# Altium integrated library MCU_ST_STM32F4.IntLib: 135 symbols (part 23 of 29)
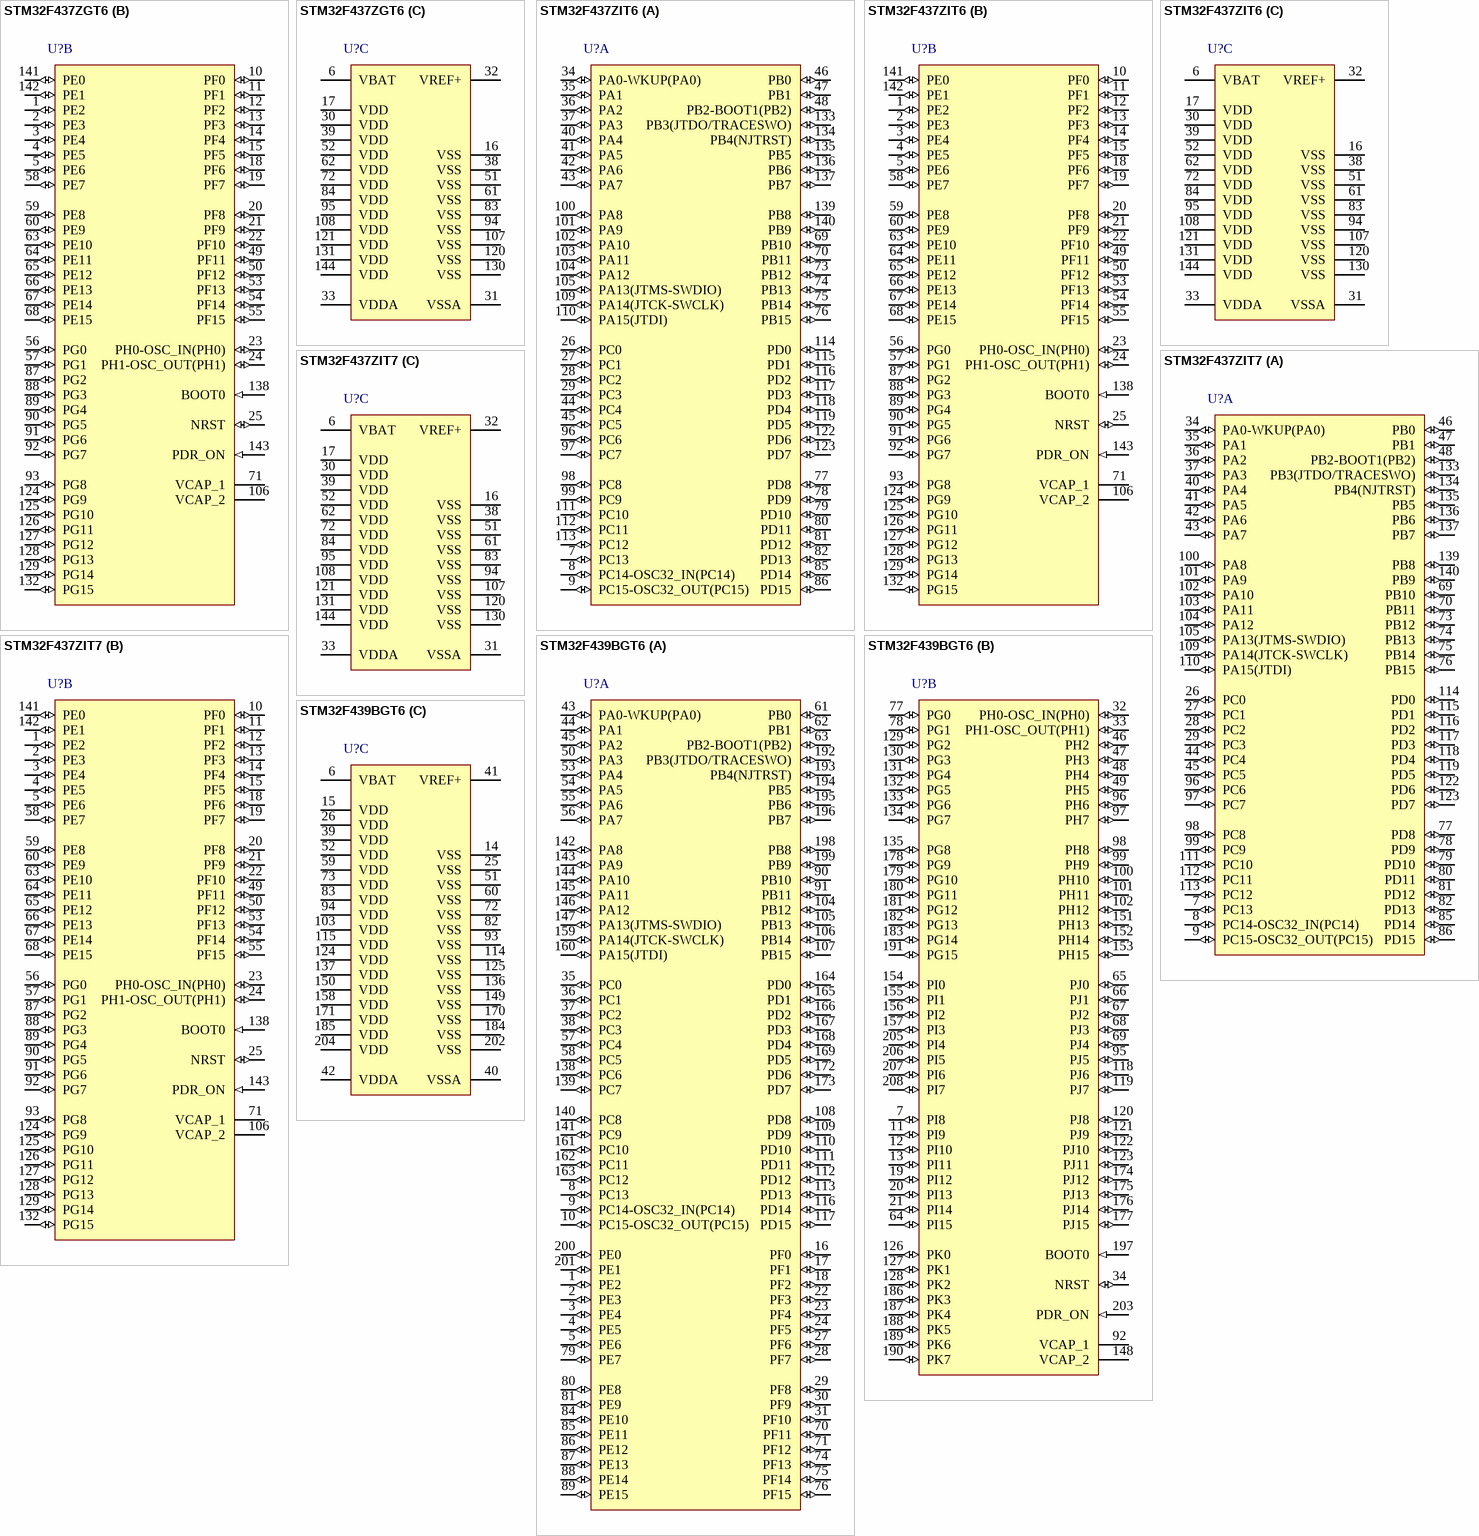
[diagram p61: symbols STM32F437ZGT6 to STM32F439BGT6]

## STM32F437ZGT6
designator U?
ARM Cortex-M4 32-bit MCU+FPU, 210 DMIPS, 1024 kB Flash, 256 kB Internal RAM, 114 I/Os, 144-pin LQFP, -40 to 85 degC, Tray; Manufacturer: STMicroelectronics; PartNumber: STM32F437ZGT6; D/A Converter: 2x12-bit; FLASH Size (Prog) (kB): 1024; I/Os (High Current): 114; Internal RAM Size (kB): 256; Operating Frequency(F) (Processor speed) (MHz): 168; Supply Voltage(Vcc) max (V): 3.6; Supply Voltage(Vcc) min (V): 1.8; DatasheetVersion: Rev. 1; PackageVersion: Rev. 4, 06/2013; PackageReference: LQFP144; PackageDescription: 144-Pin Low Profile Quad Flat Package, 20 x 20 mm Body, 0.5 mm Pitch; Supplier 1: Digi-Key; Supplier Part Number 1: STM32F437ZGT6-ND; Supplier 2: Newark; Supplier Part Number 2: 99W9936; Supplier 3: Newark; Supplier Part Number 3: 66W7320; Supplier 4: Mouser; Supplier Part Number 4: 511-STM32F437ZGT6; Core: ARM Cortex-M4; Packing: Tray; Mounting Technology: Surface Mount; ComponentLink1Description: Manufacturer URL; ComponentLink1URL: http://www.st.com/web/en/home.html; ComponentLink2Description: Datasheet; ComponentLink2URL: http://www.st.com/st-web-ui/static/active/en/resource/technical/document/datasheet/DM00077036.pdf; ComponentLink3Description: Package Specification; ComponentLink3URL: http://www.st.com/st-web-ui/static/active/en/resource/technical/document/datasheet/DM00037051.pdf
footprint STM-LQFP144_N (Thin QFP, 144-Leads, Body 20x20mm, Pitch 0.5mm, IPC Medium Density)
footprint STM-LQFP144_L (Thin QFP, 144-Leads, Body 20x20mm, Pitch 0.5mm, IPC High Density)
footprint STM-LQFP144_M (Thin QFP, 144-Leads, Body 20x20mm, Pitch 0.5mm, IPC Low Density)
footprint STM-LQFP144_V (Thin QFP, 144-Leads, Body 20x20mm, Pitch 0.5mm, ST Recommended)
part A pins: 7 PC13 (io) "PC13/EVENTOUT/RTC_OUT,RTC_TAMP1,RTC_TS", 8 PC14-OSC32_IN(PC14) (io) "PC14-OSC32_IN(PC14)/EVENTOUT/OSC32_IN", 9 PC15-OSC32_OUT(PC15) (io) "PC15-OSC32_OUT(PC15)/EVENTOUT/OSC32_OUT", 26 PC0 (io) "PC0/OTG_HS_ULPI_STP,EVENTOUT/ADC123_IN10", 27 PC1 (io) "PC1/ETH_MDC,EVENTOUT/ADC123_IN11", 28 PC2 (io) "PC2/SPI2_MISO,OTG_HS_ULPI_DIR,ETH_MII_TXD2,I2S2ext_SD,EVENTOUT/ADC123_IN12", 29 PC3 (io) "PC3/SPI2_MOSI/I2S2_SD,OTG_HS_ULPI_NXT,ETH_MII_TX_CLK,EVENTOUT/ADC123_IN13", 34 PA0-WKUP(PA0) (io) "PA0-WKUP(PA0)/USART2_CTS,UART4_TX,ETH_MII_CRS,TIM2_CH1_ETR,TIM5_CH1,TIM8_ETR,EVENTOUT/ADC123_IN0,WKUP", 35 PA1 (io) "PA1/USART2_RTS,UART4_RX,ETH_RMII_REF_CLK,ETH_MII_RX_CLK,TIM5_CH2,TIMM2_CH2,EVENTOUT/ADC123_IN1", 36 PA2 (io) "PA2/USART2_TX,TIM5_CH3,TIM9_CH1,TIM2_CH3,ETH_MDIO,EVENTOUT/ADC123_IN2", 37 PA3 (io) "PA3/USART2_RX,TIM5_CH4,TIM9_CH2,TIM2_CH4,OTG_HS_ULPI_D0,ETH_MII_COL,EVENTOUT/ADC123_IN3", 40 PA4 (io) "PA4/SPI1_NSS,SPI3_NSS,USART2_CK,DCMI_HSYNC,OTG_HS_SOF,I2S3_WS,EVENTOUT/ADC12_IN4,DAC1_OUT", 41 PA5 (io) "PA5/SPI1_SCK,OTG_HS_ULPI_CK,TIM2_CH1_ETR,TIM8_CH1N,EVENTOUT/ADC12_IN5,DAC2_OUT", 42 PA6 (io) "PA6/SPI1_MISO,TIM8_BKIN,TIM13_CH1,DCMI_PIXCLK,TIM3_CH1,TIM1_BKIN,EVENTOUT/ADC12_IN6", 43 PA7 (io) "PA7/SPI1_MOSI,TIM8_CH1N,TIM14_CH1,TIM3_CH2,ETH_MII_RX_DV,TIM1_CH1N,ETH_RMII_CRS_DV,EVENTOUT/ADC12_IN7", 44 PC4 (io) "PC4/ETH_RMII_RX_D0,ETH_MII_RX_D0,EVENTOUT/ADC12_IN14", 45 PC5 (io) "PC5/ETH_RMII_RX_D1,ETH_MII_RX_D1,EVENTOUT/ADC12_IN15", 46 PB0 (io) "PB0/TIM3_CH3,TIM8_CH2N,OTG_HS_ULPI_D1,ETH_MII_RXD2,TIM1_CH2N,EVENTOUT/ADC12_IN8", 47 PB1 (io) "PB1/TIM3_CH4,TIM8_CH3N,OTG_HS_ULPI_D2,ETH_MII_RXD3,TIM1_CH3N,EVENTOUT/ADC12_IN9", 48 PB2-BOOT1(PB2) (io) "PB2-BOOT1(PB2)/EVENTOUT", 69 PB10 (io) "PB10/SPI2_SCK/I2S2_CK,I2C2_SCL,USART3_TX,OTG_HS_ULPI_D3,ETH_MII_RX_ER,TIM2_CH3,EVENTOUT", 70 PB11 (io) "PB11/I2C2_SDA,USART3_RX,OTG_HS_ULPI_D4,ETH_RMII_TX_EN,ETH_MII_TX_EN,TIM2_CH4,EVENTOUT", 73 PB12 (io) "PB12/SPI2_NSS/I2S2_WS,I2C2_SMBA,USART3_CK,TIM1_BKIN,CAN2_RX,OTG_HS_ULPI_D5,ETH_RMII_TXD0,ETH_MII_TXD0,OTG_HS_ID,EVENTOUT", 74 PB13 (io) "PB13/SPI2_SCK/I2S2_CK,USART3_CTS,TIM1_CH1N,CAN2_TX,OTG_HS_ULPI_D6,ETH_RMII_TXD1,ETH_MII_TXD1,EVENTOUT/OTG_HS_VBUS", 75 PB14 (io) "PB14/SPI2_MISO,TIM1_CH2N,TIM12_CH1,OTG_HS_DM,USART3_RTS,TIM8_CH2N,I2S2ext_SD,EVENTOUT", 76 PB15 (io) "PB15/SPI2_MOSI/I2S2_SD,TIM1_CH3N,TIM8_CH3N,TIM12_CH2,OTG_HS_DP,EVENTOUT,RTC_REFIN", 77 PD8 (io) "PD8/FSMC_D13,USART3_TX,EVENTOUT", 78 PD9 (io) "PD9/FSMC_D14,USART3_RX,EVENTOUT", 79 PD10 (io) "PD10/FSMC_D15,USART3_CK,EVENTOUT", 80 PD11 (io) "PD11/FSMC_CLE,FSMC_A16,USART3_CTS,EVENTOUT", 81 PD12 (io) "PD12/FSMC_ALE,FSMC_A17,TIM4_CH1,USART3_RTS,EVENTOUT", 82 PD13 (io) "PD13/FSMC_A18,TIM4_CH2,EVENTOUT", 85 PD14 (io) "PD14/FSMC_D0,TIM4_CH3,EVENTOUT", 86 PD15 (io) "PD15/FSMC_D1,TIM4_CH4,EVENTOUT", 96 PC6 (io) "PC6/I2S2_MCK,TIM8_CH1,SDIO_D6,USART6_TX,DCMI_D0,TIM3_CH1,EVENTOUT", 97 PC7 (io) "PC7/I2S3_MCK,TIM8_CH2,SDIO_D7,USART6_RX,DCMI_D1,TIM3_CH2,EVENTOUT", 98 PC8 (io) "PC8/TIM8_CH3,SDIO_D0,TIM3_CH3,USART6_CK,DCMI_D2,EVENTOUT", 99 PC9 (io) "PC9/I2S_CKIN,MCO2,TIM8_CH4,SDIO_D1,I2C3_SDA,DCMI_D3,TIM3_CH4,EVENTOUT", 100 PA8 (io) "PA8/MCO1,USART1_CK,TIM1_CH1,I2C3_SCL,OTG_FS_SOF,EVENTOUT", 101 PA9 (io) "PA9/USART1_TX,TIM1_CH2,I2C3_SMBA,DCMI_D0,EVENTOUT/OTG_FS_VBUS", 102 PA10 (io) "PA10/USART1_RX,TIM1_CH3,OTG_FS_ID,DCMI_D1,EVENTOUT", 103 PA11 (io) "PA11/USART1_CTS,CAN1_RX,TIM1_CH4,OTG_FS_DM,EVENTOUT", 104 PA12 (io) "PA12/USART1_RTS,CAN1_TX,TIM1_ETR,OTG_FS_DP,EVENTOUT", 105 PA13(JTMS-SWDIO) (io) "PA13(JTMS-SWDIO)/JTMS-SWDIO,EVENTOUT", 109 PA14(JTCK-SWCLK) (io) "PA14(JTCK-SWCLK)/JTCK-SWCLK,EVENTOUT", 110 PA15(JTDI) (io) "PA15(JTDI)/JTDI,SPI3_NSS,I2S3_WS,TIM2_CH1_ETR,SPI1_NSS,EVENTOUT", 111 PC10 (io) "PC10/SPI3_SCK/I2S3_CK,UART4_TX,SDIO_D2,DCMI_D8,USART3_TX,EVENTOUT", 112 PC11 (io) "PC11/UART4_RX,SPI3_MISO,SDIO_D3,DCMI_D4,USART3_RX,I2S3ext_SD,EVENTOUT", 113 PC12 (io) "PC12/UART5_TX,SDIO_CK,DCMI_D9,SPI3_MOSI,I2S3_SD,USART3_CK,EVENTOUT", 114 PD0 (io) "PD0/FSMC_D2,CAN1_RX,EVENTOUT", 115 PD1 (io) "PD1/FSMC_D3,CAN1_TX,EVENTOUT", 116 PD2 (io) "PD2/TIM3_ETR,UART5_RX,SDIO_CMD,DCMI_D11,EVENTOUT", 117 PD3 (io) "PD3/FSMC_CLK,USART2_CTS,EVENTOUT,SPI2_SCK,I2S2_CK,DCMI_D5", 118 PD4 (io) "PD4/FSMC_NOE,USART2_RTS,EVENTOUT", 119 PD5 (io) "PD5/FSMC_NWE,USART2_TX,EVENTOUT", 122 PD6 (io) "PD6/FSMC_NWAIT,USART2_RX,EVENTOUT,SPI3_MOSI,I2S3_MOSI,DCMI_D10", 123 PD7 (io) "PD7/USART2_CK,FSMC_NE1,FSMC_NCE2,EVENTOUT", 133 PB3(JTDO/TRACESWO) (io) "PB3(JTDO/TRACESWO)/JTDO/TRACESWO,SPI3_SCK/I2S3_CK,TIM2_CH2,SPI1_SCK,EVENTOUT", 134 PB4(NJTRST) (io) "PB4(NJTRST)/NJTRST,SPI3_MISO,TIM3_CH1,SPI1_MISO,I2S3ext_SD,EVENTOUT", 135 PB5 (io) "PB5/I2C1_SMBA,CAN2_RX,OTG_HS_ULPI_D7,ETH_PPS_OUT,TIM3_CH2,SPI1_MOSI,SPI3_MOSI,DCMI_D10,I2S3_SD,EVENTOUT", 136 PB6 (io) "PB6/I2C1_SCL,TIM4_CH1,CAN2_TX,DCMI_D5,USART1_TX,EVENTOUT", 137 PB7 (io) "PB7/I2C1_SDA,FSMC_NL(NADV),DCMI_VSYNC,USART1_RX,TIM4_CH2,EVENTOUT", 139 PB8 (io) "PB8/TIM4_CH3,SDIO_D4,TIM10_CH1,DCMI_D6,ETH_MII_TXD3,I2C1_SCL,CAN1_RX,EVENTOUT", 140 PB9 (io) "PB9/SPI2_NSS/I2S2_WS,TIM4_CH4,TIM11_CH1,SDIO_D5,DCMI_D7,I2C1_SDA,CAN1_TX,EVENTOUT"
part B pins: 1 PE2 (io) "PE2/TRACECLK,FSMC_A23,ETH_MII_TXD3,EVENTOUT,SPI4_SCK", 2 PE3 (io) "PE3/TRACED0,FSMC_A19,EVENTOUT,SPI4_NSS", 3 PE4 (io) "PE4/TRACED1,FSMC_A20,DCMI_D4,EVENTOUT,SPI4_NSS", 4 PE5 (io) "PE5/TRACED2,FSMC_A21,TIM9_CH1,DCMI_D6,EVENTOUT,SPI4_MISO", 5 PE6 (io) "PE6/TRACED3,FSMC_A22,TIM9_CH2,DCMI_D7,EVENTOUT,SPI4_MOSI", 10 PF0 (io) "PF0/FSMC_A0,I2C2_SDA,EVENTOUT", 11 PF1 (io) "PF1/FSMC_A1,I2C2_SCL,EVENTOUT", 12 PF2 (io) "PF2/FSMC_A2,I2C2_SMBA,EVENTOUT", 13 PF3 (io) "PF3/FSMC_A3,EVENTOUT/ADC3_IN9", 14 PF4 (io) "PF4/FSMC_A4,EVENTOUT/ADC3_IN14", 15 PF5 (io) "PF5/FSMC_A5,EVENTOUT/ADC3_IN15", 18 PF6 (io) "PF6/TIM10_CH1,FSMC_NIORD,EVENTOUT,SPI5_NSS,UART7_RX/ADC3_IN4", 19 PF7 (io) "PF7/TIM11_CH1,FSMC_NREG,EVENTOUT,SPI5_SCK,UART7_TX/ADC3_IN5", 20 PF8 (io) "PF8/TIM13_CH1,FSMC_NIOWR,EVENTOUT,SPI5_MISO/ADC3_IN6", 21 PF9 (io) "PF9/TIM14_CH1,FSMC_CD,EVENTOUT,SPI5_MOSI/ADC3_IN7", 22 PF10 (io) "PF10/FSMC_INTR,EVENTOUT,DCMI_D11/ADC3_IN8", 23 PH0-OSC_IN(PH0) (io) "PH0-OSC_IN(PH0)/EVENTOUT/OSC_IN", 24 PH1-OSC_OUT(PH1) (io) "PH1-OSC_OUT(PH1)/EVENTOUT/OSC_OUT", 25 NRST (io), 49 PF11 (io) "PF11/DCMI_D12,EVENTOUT,SPI5_MOSI", 50 PF12 (io) "PF12/FSMC_A6,EVENTOUT", 53 PF13 (io) "PF13/FSMC_A7,EVENTOUT", 54 PF14 (io) "PF14/FSMC_A8,EVENTOUT", 55 PF15 (io) "PF15/FSMC_A9,EVENTOUT", 56 PG0 (io) "PG0/FSMC_A10,EVENTOUT", 57 PG1 (io) "PG1/FSMC_A11,EVENTOUT", 58 PE7 (io) "PE7/FSMC_D4,TIM1_ETR,EVENTOUT,UART7_RX", 59 PE8 (io) "PE8/FSMC_D5,TIM1_CH1N,EVENTOUT,UART7_TX", 60 PE9 (io) "PE9/FSMC_D6,TIM1_CH1,EVENTOUT", 63 PE10 (io) "PE10/FSMC_D7,TIM1_CH2N,EVENTOUT", 64 PE11 (io) "PE11/FSMC_D8,TIM1_CH2,EVENTOUT,SPI4_NSS", 65 PE12 (io) "PE12/FSMC_D9,TIM1_CH3N,EVENTOUT,SPI4_SCK", 66 PE13 (io) "PE13/FSMC_D10,TIM1_CH3,EVENTOUT,SPI4_MISO", 67 PE14 (io) "PE14/FSMC_D11,TIM1_CH4,EVENTOUT,SPI4_MOSI", 68 PE15 (io) "PE15/FSMC_D12,TIM1_BKIN,EVENTOUT", 71 VCAP_1 (power), 87 PG2 (io) "PG2/FSMC_A12,EVENTOUT", 88 PG3 (io) "PG3/FSMC_A13,EVENTOUT", 89 PG4 (io) "PG4/FSMC_A14,EVENTOUT", 90 PG5 (io) "PG5/FSMC_A15,EVENTOUT", 91 PG6 (io) "PG6/FSMC_INT2,EVENTOUT,DCMI_D12", 92 PG7 (io) "PG7/FSMC_INT3,USART6_CK,EVENTOUT,DCMI_D13", 93 PG8 (io) "PG8/USART6_RTS,ETH_PPS_OUT,EVENTOUT,SPI6_NSS", 106 VCAP_2 (power), 124 PG9 (io) "PG9/USART6_RX,FSMC_NE2,FSMC_NCE3,EVENTOUT", 125 PG10 (io) "PG10/FSMC_NCE4_1,FSMC_NE3,EVENTOUT,DCMI_D2", 126 PG11 (io) "PG11/FSMC_NCE4_2,ETH_MII_TX_EN,ETH_RMII_TX_EN,EVENTOUT,DCMI_D3", 127 PG12 (io) "PG12/FSMC_NE4,USART6_RTS,EVENTOUT,SPI6_MISO", 128 PG13 (io) "PG13/FSMC_A24,USART6_CTS,ETH_MII_TXD0,ETH_RMII_TXD0,EVENTOUT,SPI6_SCK", 129 PG14 (io) "PG14/FSMC_A25,USART6_TX,ETH_MII_TXD1,ETH_RMII_TXD1,EVENTOUT,SPI6_MOSI", 132 PG15 (io) "PG15/USART6_CTS,DCMI_D13,EVENTOUT", 138 BOOT0 (in) "BOOT0/VPP", 141 PE0 (io) "PE0/TIM4_ETR,FSMC_NBL0,DCMI_D2,EVENTOUT,UART8_RX", 142 PE1 (io) "PE1/FSMC_NBL1,DCMI_D3,EVENTOUT,UART8_TX", 143 PDR_ON (in)
part C pins: 6 VBAT (power), 16 VSS (power), 17 VDD (power), 30 VDD (power), 31 VSSA (power), 32 VREF+ (power), 33 VDDA (power), 38 VSS (power), 39 VDD (power), 51 VSS (power), 52 VDD (power), 61 VSS (power), 62 VDD (power), 72 VDD (power), 83 VSS (power), 84 VDD (power), 94 VSS (power), 95 VDD (power), 107 VSS (power), 108 VDD (power), 120 VSS (power), 121 VDD (power), 130 VSS (power), 131 VDD (power), 144 VDD (power)

## STM32F437ZIT6
designator U?
ARM Cortex-M4 32-bit MCU+FPU, 210 DMIPS, 2048 kB Flash, 256 kB Internal RAM, 114 I/Os, 144-pin LQFP, -40 to 85 degC, Tray; Manufacturer: STMicroelectronics; PartNumber: STM32F437ZIT6; D/A Converter: 2x12-bit; FLASH Size (Prog) (kB): 2048; I/Os (High Current): 114; Internal RAM Size (kB): 256; Operating Frequency(F) (Processor speed) (MHz): 168; Supply Voltage(Vcc) max (V): 3.6; Supply Voltage(Vcc) min (V): 1.8; DatasheetVersion: Rev. 1; PackageVersion: Rev. 4, 06/2013; PackageReference: LQFP144; PackageDescription: 144-Pin Low Profile Quad Flat Package, 20 x 20 mm Body, 0.5 mm Pitch; Supplier 1: Digi-Key; Supplier Part Number 1: STM32F437ZIT6-ND; Supplier 2: Farnell; Supplier Part Number 2: 2333380; Supplier 3: Newark; Supplier Part Number 3: 99W9937; Supplier 4: Newark; Supplier Part Number 4: 66W7321; Supplier 5: Mouser; Supplier Part Number 5: 511-STM32F437ZIT6; Core: ARM Cortex-M4; Packing: Tray; Mounting Technology: Surface Mount; ComponentLink1Description: Manufacturer URL; ComponentLink1URL: http://www.st.com/web/en/home.html; ComponentLink2Description: Datasheet; ComponentLink2URL: http://www.st.com/st-web-ui/static/active/en/resource/technical/document/datasheet/DM00077036.pdf; ComponentLink3Description: Package Specification; ComponentLink3URL: http://www.st.com/st-web-ui/static/active/en/resource/technical/document/datasheet/DM00037051.pdf
footprint STM-LQFP144_N (Thin QFP, 144-Leads, Body 20x20mm, Pitch 0.5mm, IPC Medium Density)
footprint STM-LQFP144_L (Thin QFP, 144-Leads, Body 20x20mm, Pitch 0.5mm, IPC High Density)
footprint STM-LQFP144_M (Thin QFP, 144-Leads, Body 20x20mm, Pitch 0.5mm, IPC Low Density)
footprint STM-LQFP144_V (Thin QFP, 144-Leads, Body 20x20mm, Pitch 0.5mm, ST Recommended)
part A pins: 7 PC13 (io) "PC13/EVENTOUT/RTC_OUT,RTC_TAMP1,RTC_TS", 8 PC14-OSC32_IN(PC14) (io) "PC14-OSC32_IN(PC14)/EVENTOUT/OSC32_IN", 9 PC15-OSC32_OUT(PC15) (io) "PC15-OSC32_OUT(PC15)/EVENTOUT/OSC32_OUT", 26 PC0 (io) "PC0/OTG_HS_ULPI_STP,EVENTOUT/ADC123_IN10", 27 PC1 (io) "PC1/ETH_MDC,EVENTOUT/ADC123_IN11", 28 PC2 (io) "PC2/SPI2_MISO,OTG_HS_ULPI_DIR,ETH_MII_TXD2,I2S2ext_SD,EVENTOUT/ADC123_IN12", 29 PC3 (io) "PC3/SPI2_MOSI/I2S2_SD,OTG_HS_ULPI_NXT,ETH_MII_TX_CLK,EVENTOUT/ADC123_IN13", 34 PA0-WKUP(PA0) (io) "PA0-WKUP(PA0)/USART2_CTS,UART4_TX,ETH_MII_CRS,TIM2_CH1_ETR,TIM5_CH1,TIM8_ETR,EVENTOUT/ADC123_IN0,WKUP", 35 PA1 (io) "PA1/USART2_RTS,UART4_RX,ETH_RMII_REF_CLK,ETH_MII_RX_CLK,TIM5_CH2,TIMM2_CH2,EVENTOUT/ADC123_IN1", 36 PA2 (io) "PA2/USART2_TX,TIM5_CH3,TIM9_CH1,TIM2_CH3,ETH_MDIO,EVENTOUT/ADC123_IN2", 37 PA3 (io) "PA3/USART2_RX,TIM5_CH4,TIM9_CH2,TIM2_CH4,OTG_HS_ULPI_D0,ETH_MII_COL,EVENTOUT/ADC123_IN3", 40 PA4 (io) "PA4/SPI1_NSS,SPI3_NSS,USART2_CK,DCMI_HSYNC,OTG_HS_SOF,I2S3_WS,EVENTOUT/ADC12_IN4,DAC1_OUT", 41 PA5 (io) "PA5/SPI1_SCK,OTG_HS_ULPI_CK,TIM2_CH1_ETR,TIM8_CH1N,EVENTOUT/ADC12_IN5,DAC2_OUT", 42 PA6 (io) "PA6/SPI1_MISO,TIM8_BKIN,TIM13_CH1,DCMI_PIXCLK,TIM3_CH1,TIM1_BKIN,EVENTOUT/ADC12_IN6", 43 PA7 (io) "PA7/SPI1_MOSI,TIM8_CH1N,TIM14_CH1,TIM3_CH2,ETH_MII_RX_DV,TIM1_CH1N,ETH_RMII_CRS_DV,EVENTOUT/ADC12_IN7", 44 PC4 (io) "PC4/ETH_RMII_RX_D0,ETH_MII_RX_D0,EVENTOUT/ADC12_IN14", 45 PC5 (io) "PC5/ETH_RMII_RX_D1,ETH_MII_RX_D1,EVENTOUT/ADC12_IN15", 46 PB0 (io) "PB0/TIM3_CH3,TIM8_CH2N,OTG_HS_ULPI_D1,ETH_MII_RXD2,TIM1_CH2N,EVENTOUT/ADC12_IN8", 47 PB1 (io) "PB1/TIM3_CH4,TIM8_CH3N,OTG_HS_ULPI_D2,ETH_MII_RXD3,TIM1_CH3N,EVENTOUT/ADC12_IN9", 48 PB2-BOOT1(PB2) (io) "PB2-BOOT1(PB2)/EVENTOUT", 69 PB10 (io) "PB10/SPI2_SCK/I2S2_CK,I2C2_SCL,USART3_TX,OTG_HS_ULPI_D3,ETH_MII_RX_ER,TIM2_CH3,EVENTOUT", 70 PB11 (io) "PB11/I2C2_SDA,USART3_RX,OTG_HS_ULPI_D4,ETH_RMII_TX_EN,ETH_MII_TX_EN,TIM2_CH4,EVENTOUT", 73 PB12 (io) "PB12/SPI2_NSS/I2S2_WS,I2C2_SMBA,USART3_CK,TIM1_BKIN,CAN2_RX,OTG_HS_ULPI_D5,ETH_RMII_TXD0,ETH_MII_TXD0,OTG_HS_ID,EVENTOUT", 74 PB13 (io) "PB13/SPI2_SCK/I2S2_CK,USART3_CTS,TIM1_CH1N,CAN2_TX,OTG_HS_ULPI_D6,ETH_RMII_TXD1,ETH_MII_TXD1,EVENTOUT/OTG_HS_VBUS", 75 PB14 (io) "PB14/SPI2_MISO,TIM1_CH2N,TIM12_CH1,OTG_HS_DM,USART3_RTS,TIM8_CH2N,I2S2ext_SD,EVENTOUT", 76 PB15 (io) "PB15/SPI2_MOSI/I2S2_SD,TIM1_CH3N,TIM8_CH3N,TIM12_CH2,OTG_HS_DP,EVENTOUT,RTC_REFIN", 77 PD8 (io) "PD8/FSMC_D13,USART3_TX,EVENTOUT", 78 PD9 (io) "PD9/FSMC_D14,USART3_RX,EVENTOUT", 79 PD10 (io) "PD10/FSMC_D15,USART3_CK,EVENTOUT", 80 PD11 (io) "PD11/FSMC_CLE,FSMC_A16,USART3_CTS,EVENTOUT", 81 PD12 (io) "PD12/FSMC_ALE,FSMC_A17,TIM4_CH1,USART3_RTS,EVENTOUT", 82 PD13 (io) "PD13/FSMC_A18,TIM4_CH2,EVENTOUT", 85 PD14 (io) "PD14/FSMC_D0,TIM4_CH3,EVENTOUT", 86 PD15 (io) "PD15/FSMC_D1,TIM4_CH4,EVENTOUT", 96 PC6 (io) "PC6/I2S2_MCK,TIM8_CH1,SDIO_D6,USART6_TX,DCMI_D0,TIM3_CH1,EVENTOUT", 97 PC7 (io) "PC7/I2S3_MCK,TIM8_CH2,SDIO_D7,USART6_RX,DCMI_D1,TIM3_CH2,EVENTOUT", 98 PC8 (io) "PC8/TIM8_CH3,SDIO_D0,TIM3_CH3,USART6_CK,DCMI_D2,EVENTOUT", 99 PC9 (io) "PC9/I2S_CKIN,MCO2,TIM8_CH4,SDIO_D1,I2C3_SDA,DCMI_D3,TIM3_CH4,EVENTOUT", 100 PA8 (io) "PA8/MCO1,USART1_CK,TIM1_CH1,I2C3_SCL,OTG_FS_SOF,EVENTOUT", 101 PA9 (io) "PA9/USART1_TX,TIM1_CH2,I2C3_SMBA,DCMI_D0,EVENTOUT/OTG_FS_VBUS", 102 PA10 (io) "PA10/USART1_RX,TIM1_CH3,OTG_FS_ID,DCMI_D1,EVENTOUT", 103 PA11 (io) "PA11/USART1_CTS,CAN1_RX,TIM1_CH4,OTG_FS_DM,EVENTOUT", 104 PA12 (io) "PA12/USART1_RTS,CAN1_TX,TIM1_ETR,OTG_FS_DP,EVENTOUT", 105 PA13(JTMS-SWDIO) (io) "PA13(JTMS-SWDIO)/JTMS-SWDIO,EVENTOUT", 109 PA14(JTCK-SWCLK) (io) "PA14(JTCK-SWCLK)/JTCK-SWCLK,EVENTOUT", 110 PA15(JTDI) (io) "PA15(JTDI)/JTDI,SPI3_NSS,I2S3_WS,TIM2_CH1_ETR,SPI1_NSS,EVENTOUT", 111 PC10 (io) "PC10/SPI3_SCK/I2S3_CK,UART4_TX,SDIO_D2,DCMI_D8,USART3_TX,EVENTOUT", 112 PC11 (io) "PC11/UART4_RX,SPI3_MISO,SDIO_D3,DCMI_D4,USART3_RX,I2S3ext_SD,EVENTOUT", 113 PC12 (io) "PC12/UART5_TX,SDIO_CK,DCMI_D9,SPI3_MOSI,I2S3_SD,USART3_CK,EVENTOUT", 114 PD0 (io) "PD0/FSMC_D2,CAN1_RX,EVENTOUT", 115 PD1 (io) "PD1/FSMC_D3,CAN1_TX,EVENTOUT", 116 PD2 (io) "PD2/TIM3_ETR,UART5_RX,SDIO_CMD,DCMI_D11,EVENTOUT", 117 PD3 (io) "PD3/FSMC_CLK,USART2_CTS,EVENTOUT,SPI2_SCK,I2S2_CK,DCMI_D5", 118 PD4 (io) "PD4/FSMC_NOE,USART2_RTS,EVENTOUT", 119 PD5 (io) "PD5/FSMC_NWE,USART2_TX,EVENTOUT", 122 PD6 (io) "PD6/FSMC_NWAIT,USART2_RX,EVENTOUT,SPI3_MOSI,I2S3_MOSI,DCMI_D10", 123 PD7 (io) "PD7/USART2_CK,FSMC_NE1,FSMC_NCE2,EVENTOUT", 133 PB3(JTDO/TRACESWO) (io) "PB3(JTDO/TRACESWO)/JTDO/TRACESWO,SPI3_SCK/I2S3_CK,TIM2_CH2,SPI1_SCK,EVENTOUT", 134 PB4(NJTRST) (io) "PB4(NJTRST)/NJTRST,SPI3_MISO,TIM3_CH1,SPI1_MISO,I2S3ext_SD,EVENTOUT", 135 PB5 (io) "PB5/I2C1_SMBA,CAN2_RX,OTG_HS_ULPI_D7,ETH_PPS_OUT,TIM3_CH2,SPI1_MOSI,SPI3_MOSI,DCMI_D10,I2S3_SD,EVENTOUT", 136 PB6 (io) "PB6/I2C1_SCL,TIM4_CH1,CAN2_TX,DCMI_D5,USART1_TX,EVENTOUT", 137 PB7 (io) "PB7/I2C1_SDA,FSMC_NL(NADV),DCMI_VSYNC,USART1_RX,TIM4_CH2,EVENTOUT", 139 PB8 (io) "PB8/TIM4_CH3,SDIO_D4,TIM10_CH1,DCMI_D6,ETH_MII_TXD3,I2C1_SCL,CAN1_RX,EVENTOUT", 140 PB9 (io) "PB9/SPI2_NSS/I2S2_WS,TIM4_CH4,TIM11_CH1,SDIO_D5,DCMI_D7,I2C1_SDA,CAN1_TX,EVENTOUT"
part B pins: 1 PE2 (io) "PE2/TRACECLK,FSMC_A23,ETH_MII_TXD3,EVENTOUT,SPI4_SCK", 2 PE3 (io) "PE3/TRACED0,FSMC_A19,EVENTOUT,SPI4_NSS", 3 PE4 (io) "PE4/TRACED1,FSMC_A20,DCMI_D4,EVENTOUT,SPI4_NSS", 4 PE5 (io) "PE5/TRACED2,FSMC_A21,TIM9_CH1,DCMI_D6,EVENTOUT,SPI4_MISO", 5 PE6 (io) "PE6/TRACED3,FSMC_A22,TIM9_CH2,DCMI_D7,EVENTOUT,SPI4_MOSI", 10 PF0 (io) "PF0/FSMC_A0,I2C2_SDA,EVENTOUT", 11 PF1 (io) "PF1/FSMC_A1,I2C2_SCL,EVENTOUT", 12 PF2 (io) "PF2/FSMC_A2,I2C2_SMBA,EVENTOUT", 13 PF3 (io) "PF3/FSMC_A3,EVENTOUT/ADC3_IN9", 14 PF4 (io) "PF4/FSMC_A4,EVENTOUT/ADC3_IN14", 15 PF5 (io) "PF5/FSMC_A5,EVENTOUT/ADC3_IN15", 18 PF6 (io) "PF6/TIM10_CH1,FSMC_NIORD,EVENTOUT,SPI5_NSS,UART7_RX/ADC3_IN4", 19 PF7 (io) "PF7/TIM11_CH1,FSMC_NREG,EVENTOUT,SPI5_SCK,UART7_TX/ADC3_IN5", 20 PF8 (io) "PF8/TIM13_CH1,FSMC_NIOWR,EVENTOUT,SPI5_MISO/ADC3_IN6", 21 PF9 (io) "PF9/TIM14_CH1,FSMC_CD,EVENTOUT,SPI5_MOSI/ADC3_IN7", 22 PF10 (io) "PF10/FSMC_INTR,EVENTOUT,DCMI_D11/ADC3_IN8", 23 PH0-OSC_IN(PH0) (io) "PH0-OSC_IN(PH0)/EVENTOUT/OSC_IN", 24 PH1-OSC_OUT(PH1) (io) "PH1-OSC_OUT(PH1)/EVENTOUT/OSC_OUT", 25 NRST (io), 49 PF11 (io) "PF11/DCMI_D12,EVENTOUT,SPI5_MOSI", 50 PF12 (io) "PF12/FSMC_A6,EVENTOUT", 53 PF13 (io) "PF13/FSMC_A7,EVENTOUT", 54 PF14 (io) "PF14/FSMC_A8,EVENTOUT", 55 PF15 (io) "PF15/FSMC_A9,EVENTOUT", 56 PG0 (io) "PG0/FSMC_A10,EVENTOUT", 57 PG1 (io) "PG1/FSMC_A11,EVENTOUT", 58 PE7 (io) "PE7/FSMC_D4,TIM1_ETR,EVENTOUT,UART7_RX", 59 PE8 (io) "PE8/FSMC_D5,TIM1_CH1N,EVENTOUT,UART7_TX", 60 PE9 (io) "PE9/FSMC_D6,TIM1_CH1,EVENTOUT", 63 PE10 (io) "PE10/FSMC_D7,TIM1_CH2N,EVENTOUT", 64 PE11 (io) "PE11/FSMC_D8,TIM1_CH2,EVENTOUT,SPI4_NSS", 65 PE12 (io) "PE12/FSMC_D9,TIM1_CH3N,EVENTOUT,SPI4_SCK", 66 PE13 (io) "PE13/FSMC_D10,TIM1_CH3,EVENTOUT,SPI4_MISO", 67 PE14 (io) "PE14/FSMC_D11,TIM1_CH4,EVENTOUT,SPI4_MOSI", 68 PE15 (io) "PE15/FSMC_D12,TIM1_BKIN,EVENTOUT", 71 VCAP_1 (power), 87 PG2 (io) "PG2/FSMC_A12,EVENTOUT", 88 PG3 (io) "PG3/FSMC_A13,EVENTOUT", 89 PG4 (io) "PG4/FSMC_A14,EVENTOUT", 90 PG5 (io) "PG5/FSMC_A15,EVENTOUT", 91 PG6 (io) "PG6/FSMC_INT2,EVENTOUT,DCMI_D12", 92 PG7 (io) "PG7/FSMC_INT3,USART6_CK,EVENTOUT,DCMI_D13", 93 PG8 (io) "PG8/USART6_RTS,ETH_PPS_OUT,EVENTOUT,SPI6_NSS", 106 VCAP_2 (power), 124 PG9 (io) "PG9/USART6_RX,FSMC_NE2,FSMC_NCE3,EVENTOUT", 125 PG10 (io) "PG10/FSMC_NCE4_1,FSMC_NE3,EVENTOUT,DCMI_D2", 126 PG11 (io) "PG11/FSMC_NCE4_2,ETH_MII_TX_EN,ETH_RMII_TX_EN,EVENTOUT,DCMI_D3", 127 PG12 (io) "PG12/FSMC_NE4,USART6_RTS,EVENTOUT,SPI6_MISO", 128 PG13 (io) "PG13/FSMC_A24,USART6_CTS,ETH_MII_TXD0,ETH_RMII_TXD0,EVENTOUT,SPI6_SCK", 129 PG14 (io) "PG14/FSMC_A25,USART6_TX,ETH_MII_TXD1,ETH_RMII_TXD1,EVENTOUT,SPI6_MOSI", 132 PG15 (io) "PG15/USART6_CTS,DCMI_D13,EVENTOUT", 138 BOOT0 (in) "BOOT0/VPP", 141 PE0 (io) "PE0/TIM4_ETR,FSMC_NBL0,DCMI_D2,EVENTOUT,UART8_RX", 142 PE1 (io) "PE1/FSMC_NBL1,DCMI_D3,EVENTOUT,UART8_TX", 143 PDR_ON (in)
part C pins: 6 VBAT (power), 16 VSS (power), 17 VDD (power), 30 VDD (power), 31 VSSA (power), 32 VREF+ (power), 33 VDDA (power), 38 VSS (power), 39 VDD (power), 51 VSS (power), 52 VDD (power), 61 VSS (power), 62 VDD (power), 72 VDD (power), 83 VSS (power), 84 VDD (power), 94 VSS (power), 95 VDD (power), 107 VSS (power), 108 VDD (power), 120 VSS (power), 121 VDD (power), 130 VSS (power), 131 VDD (power), 144 VDD (power)

## STM32F437ZIT7
designator U?
ARM Cortex-M4 32-bit MCU+FPU, 210 DMIPS, 2048 kB Flash, 256 kB Internal RAM, 114 I/Os, 144-pin LQFP, -40 to 105 degC, Tray; Manufacturer: STMicroelectronics; PartNumber: STM32F437ZIT7; D/A Converter: 2x12-bit; FLASH Size (Prog) (kB): 2048; I/Os (High Current): 114; Internal RAM Size (kB): 256; Operating Frequency(F) (Processor speed) (MHz): 168; Supply Voltage(Vcc) max (V): 3.6; Supply Voltage(Vcc) min (V): 1.8; DatasheetVersion: Rev. 1; PackageVersion: Rev. 4, 06/2013; PackageReference: LQFP144; PackageDescription: 144-Pin Low Profile Quad Flat Package, 20 x 20 mm Body, 0.5 mm Pitch; Supplier 1: Newark; Supplier Part Number 1: 19X6233; Supplier 2: Mouser; Supplier Part Number 2: 511-STM32F437ZIT7; Core: ARM Cortex-M4; Packing: Tray; Mounting Technology: Surface Mount; ComponentLink1Description: Manufacturer URL; ComponentLink1URL: http://www.st.com/web/en/home.html; ComponentLink2Description: Datasheet; ComponentLink2URL: http://www.st.com/st-web-ui/static/active/en/resource/technical/document/datasheet/DM00077036.pdf; ComponentLink3Description: Package Specification; ComponentLink3URL: http://www.st.com/st-web-ui/static/active/en/resource/technical/document/datasheet/DM00037051.pdf
footprint STM-LQFP144_N (Thin QFP, 144-Leads, Body 20x20mm, Pitch 0.5mm, IPC Medium Density)
footprint STM-LQFP144_L (Thin QFP, 144-Leads, Body 20x20mm, Pitch 0.5mm, IPC High Density)
footprint STM-LQFP144_M (Thin QFP, 144-Leads, Body 20x20mm, Pitch 0.5mm, IPC Low Density)
footprint STM-LQFP144_V (Thin QFP, 144-Leads, Body 20x20mm, Pitch 0.5mm, ST Recommended)
part A pins: 7 PC13 (io) "PC13/EVENTOUT/RTC_OUT,RTC_TAMP1,RTC_TS", 8 PC14-OSC32_IN(PC14) (io) "PC14-OSC32_IN(PC14)/EVENTOUT/OSC32_IN", 9 PC15-OSC32_OUT(PC15) (io) "PC15-OSC32_OUT(PC15)/EVENTOUT/OSC32_OUT", 26 PC0 (io) "PC0/OTG_HS_ULPI_STP,EVENTOUT/ADC123_IN10", 27 PC1 (io) "PC1/ETH_MDC,EVENTOUT/ADC123_IN11", 28 PC2 (io) "PC2/SPI2_MISO,OTG_HS_ULPI_DIR,ETH_MII_TXD2,I2S2ext_SD,EVENTOUT/ADC123_IN12", 29 PC3 (io) "PC3/SPI2_MOSI/I2S2_SD,OTG_HS_ULPI_NXT,ETH_MII_TX_CLK,EVENTOUT/ADC123_IN13", 34 PA0-WKUP(PA0) (io) "PA0-WKUP(PA0)/USART2_CTS,UART4_TX,ETH_MII_CRS,TIM2_CH1_ETR,TIM5_CH1,TIM8_ETR,EVENTOUT/ADC123_IN0,WKUP", 35 PA1 (io) "PA1/USART2_RTS,UART4_RX,ETH_RMII_REF_CLK,ETH_MII_RX_CLK,TIM5_CH2,TIMM2_CH2,EVENTOUT/ADC123_IN1", 36 PA2 (io) "PA2/USART2_TX,TIM5_CH3,TIM9_CH1,TIM2_CH3,ETH_MDIO,EVENTOUT/ADC123_IN2", 37 PA3 (io) "PA3/USART2_RX,TIM5_CH4,TIM9_CH2,TIM2_CH4,OTG_HS_ULPI_D0,ETH_MII_COL,EVENTOUT/ADC123_IN3", 40 PA4 (io) "PA4/SPI1_NSS,SPI3_NSS,USART2_CK,DCMI_HSYNC,OTG_HS_SOF,I2S3_WS,EVENTOUT/ADC12_IN4,DAC1_OUT", 41 PA5 (io) "PA5/SPI1_SCK,OTG_HS_ULPI_CK,TIM2_CH1_ETR,TIM8_CH1N,EVENTOUT/ADC12_IN5,DAC2_OUT", 42 PA6 (io) "PA6/SPI1_MISO,TIM8_BKIN,TIM13_CH1,DCMI_PIXCLK,TIM3_CH1,TIM1_BKIN,EVENTOUT/ADC12_IN6", 43 PA7 (io) "PA7/SPI1_MOSI,TIM8_CH1N,TIM14_CH1,TIM3_CH2,ETH_MII_RX_DV,TIM1_CH1N,ETH_RMII_CRS_DV,EVENTOUT/ADC12_IN7", 44 PC4 (io) "PC4/ETH_RMII_RX_D0,ETH_MII_RX_D0,EVENTOUT/ADC12_IN14", 45 PC5 (io) "PC5/ETH_RMII_RX_D1,ETH_MII_RX_D1,EVENTOUT/ADC12_IN15", 46 PB0 (io) "PB0/TIM3_CH3,TIM8_CH2N,OTG_HS_ULPI_D1,ETH_MII_RXD2,TIM1_CH2N,EVENTOUT/ADC12_IN8", 47 PB1 (io) "PB1/TIM3_CH4,TIM8_CH3N,OTG_HS_ULPI_D2,ETH_MII_RXD3,TIM1_CH3N,EVENTOUT/ADC12_IN9", 48 PB2-BOOT1(PB2) (io) "PB2-BOOT1(PB2)/EVENTOUT", 69 PB10 (io) "PB10/SPI2_SCK/I2S2_CK,I2C2_SCL,USART3_TX,OTG_HS_ULPI_D3,ETH_MII_RX_ER,TIM2_CH3,EVENTOUT", 70 PB11 (io) "PB11/I2C2_SDA,USART3_RX,OTG_HS_ULPI_D4,ETH_RMII_TX_EN,ETH_MII_TX_EN,TIM2_CH4,EVENTOUT", 73 PB12 (io) "PB12/SPI2_NSS/I2S2_WS,I2C2_SMBA,USART3_CK,TIM1_BKIN,CAN2_RX,OTG_HS_ULPI_D5,ETH_RMII_TXD0,ETH_MII_TXD0,OTG_HS_ID,EVENTOUT", 74 PB13 (io) "PB13/SPI2_SCK/I2S2_CK,USART3_CTS,TIM1_CH1N,CAN2_TX,OTG_HS_ULPI_D6,ETH_RMII_TXD1,ETH_MII_TXD1,EVENTOUT/OTG_HS_VBUS", 75 PB14 (io) "PB14/SPI2_MISO,TIM1_CH2N,TIM12_CH1,OTG_HS_DM,USART3_RTS,TIM8_CH2N,I2S2ext_SD,EVENTOUT", 76 PB15 (io) "PB15/SPI2_MOSI/I2S2_SD,TIM1_CH3N,TIM8_CH3N,TIM12_CH2,OTG_HS_DP,EVENTOUT,RTC_REFIN", 77 PD8 (io) "PD8/FSMC_D13,USART3_TX,EVENTOUT", 78 PD9 (io) "PD9/FSMC_D14,USART3_RX,EVENTOUT", 79 PD10 (io) "PD10/FSMC_D15,USART3_CK,EVENTOUT", 80 PD11 (io) "PD11/FSMC_CLE,FSMC_A16,USART3_CTS,EVENTOUT", 81 PD12 (io) "PD12/FSMC_ALE,FSMC_A17,TIM4_CH1,USART3_RTS,EVENTOUT", 82 PD13 (io) "PD13/FSMC_A18,TIM4_CH2,EVENTOUT", 85 PD14 (io) "PD14/FSMC_D0,TIM4_CH3,EVENTOUT", 86 PD15 (io) "PD15/FSMC_D1,TIM4_CH4,EVENTOUT", 96 PC6 (io) "PC6/I2S2_MCK,TIM8_CH1,SDIO_D6,USART6_TX,DCMI_D0,TIM3_CH1,EVENTOUT", 97 PC7 (io) "PC7/I2S3_MCK,TIM8_CH2,SDIO_D7,USART6_RX,DCMI_D1,TIM3_CH2,EVENTOUT", 98 PC8 (io) "PC8/TIM8_CH3,SDIO_D0,TIM3_CH3,USART6_CK,DCMI_D2,EVENTOUT", 99 PC9 (io) "PC9/I2S_CKIN,MCO2,TIM8_CH4,SDIO_D1,I2C3_SDA,DCMI_D3,TIM3_CH4,EVENTOUT", 100 PA8 (io) "PA8/MCO1,USART1_CK,TIM1_CH1,I2C3_SCL,OTG_FS_SOF,EVENTOUT", 101 PA9 (io) "PA9/USART1_TX,TIM1_CH2,I2C3_SMBA,DCMI_D0,EVENTOUT/OTG_FS_VBUS", 102 PA10 (io) "PA10/USART1_RX,TIM1_CH3,OTG_FS_ID,DCMI_D1,EVENTOUT", 103 PA11 (io) "PA11/USART1_CTS,CAN1_RX,TIM1_CH4,OTG_FS_DM,EVENTOUT", 104 PA12 (io) "PA12/USART1_RTS,CAN1_TX,TIM1_ETR,OTG_FS_DP,EVENTOUT", 105 PA13(JTMS-SWDIO) (io) "PA13(JTMS-SWDIO)/JTMS-SWDIO,EVENTOUT", 109 PA14(JTCK-SWCLK) (io) "PA14(JTCK-SWCLK)/JTCK-SWCLK,EVENTOUT", 110 PA15(JTDI) (io) "PA15(JTDI)/JTDI,SPI3_NSS,I2S3_WS,TIM2_CH1_ETR,SPI1_NSS,EVENTOUT", 111 PC10 (io) "PC10/SPI3_SCK/I2S3_CK,UART4_TX,SDIO_D2,DCMI_D8,USART3_TX,EVENTOUT", 112 PC11 (io) "PC11/UART4_RX,SPI3_MISO,SDIO_D3,DCMI_D4,USART3_RX,I2S3ext_SD,EVENTOUT", 113 PC12 (io) "PC12/UART5_TX,SDIO_CK,DCMI_D9,SPI3_MOSI,I2S3_SD,USART3_CK,EVENTOUT", 114 PD0 (io) "PD0/FSMC_D2,CAN1_RX,EVENTOUT", 115 PD1 (io) "PD1/FSMC_D3,CAN1_TX,EVENTOUT", 116 PD2 (io) "PD2/TIM3_ETR,UART5_RX,SDIO_CMD,DCMI_D11,EVENTOUT", 117 PD3 (io) "PD3/FSMC_CLK,USART2_CTS,EVENTOUT,SPI2_SCK,I2S2_CK,DCMI_D5", 118 PD4 (io) "PD4/FSMC_NOE,USART2_RTS,EVENTOUT", 119 PD5 (io) "PD5/FSMC_NWE,USART2_TX,EVENTOUT", 122 PD6 (io) "PD6/FSMC_NWAIT,USART2_RX,EVENTOUT,SPI3_MOSI,I2S3_MOSI,DCMI_D10", 123 PD7 (io) "PD7/USART2_CK,FSMC_NE1,FSMC_NCE2,EVENTOUT", 133 PB3(JTDO/TRACESWO) (io) "PB3(JTDO/TRACESWO)/JTDO/TRACESWO,SPI3_SCK/I2S3_CK,TIM2_CH2,SPI1_SCK,EVENTOUT", 134 PB4(NJTRST) (io) "PB4(NJTRST)/NJTRST,SPI3_MISO,TIM3_CH1,SPI1_MISO,I2S3ext_SD,EVENTOUT", 135 PB5 (io) "PB5/I2C1_SMBA,CAN2_RX,OTG_HS_ULPI_D7,ETH_PPS_OUT,TIM3_CH2,SPI1_MOSI,SPI3_MOSI,DCMI_D10,I2S3_SD,EVENTOUT", 136 PB6 (io) "PB6/I2C1_SCL,TIM4_CH1,CAN2_TX,DCMI_D5,USART1_TX,EVENTOUT", 137 PB7 (io) "PB7/I2C1_SDA,FSMC_NL(NADV),DCMI_VSYNC,USART1_RX,TIM4_CH2,EVENTOUT", 139 PB8 (io) "PB8/TIM4_CH3,SDIO_D4,TIM10_CH1,DCMI_D6,ETH_MII_TXD3,I2C1_SCL,CAN1_RX,EVENTOUT", 140 PB9 (io) "PB9/SPI2_NSS/I2S2_WS,TIM4_CH4,TIM11_CH1,SDIO_D5,DCMI_D7,I2C1_SDA,CAN1_TX,EVENTOUT"
part B pins: 1 PE2 (io) "PE2/TRACECLK,FSMC_A23,ETH_MII_TXD3,EVENTOUT,SPI4_SCK", 2 PE3 (io) "PE3/TRACED0,FSMC_A19,EVENTOUT,SPI4_NSS", 3 PE4 (io) "PE4/TRACED1,FSMC_A20,DCMI_D4,EVENTOUT,SPI4_NSS", 4 PE5 (io) "PE5/TRACED2,FSMC_A21,TIM9_CH1,DCMI_D6,EVENTOUT,SPI4_MISO", 5 PE6 (io) "PE6/TRACED3,FSMC_A22,TIM9_CH2,DCMI_D7,EVENTOUT,SPI4_MOSI", 10 PF0 (io) "PF0/FSMC_A0,I2C2_SDA,EVENTOUT", 11 PF1 (io) "PF1/FSMC_A1,I2C2_SCL,EVENTOUT", 12 PF2 (io) "PF2/FSMC_A2,I2C2_SMBA,EVENTOUT", 13 PF3 (io) "PF3/FSMC_A3,EVENTOUT/ADC3_IN9", 14 PF4 (io) "PF4/FSMC_A4,EVENTOUT/ADC3_IN14", 15 PF5 (io) "PF5/FSMC_A5,EVENTOUT/ADC3_IN15", 18 PF6 (io) "PF6/TIM10_CH1,FSMC_NIORD,EVENTOUT,SPI5_NSS,UART7_RX/ADC3_IN4", 19 PF7 (io) "PF7/TIM11_CH1,FSMC_NREG,EVENTOUT,SPI5_SCK,UART7_TX/ADC3_IN5", 20 PF8 (io) "PF8/TIM13_CH1,FSMC_NIOWR,EVENTOUT,SPI5_MISO/ADC3_IN6", 21 PF9 (io) "PF9/TIM14_CH1,FSMC_CD,EVENTOUT,SPI5_MOSI/ADC3_IN7", 22 PF10 (io) "PF10/FSMC_INTR,EVENTOUT,DCMI_D11/ADC3_IN8", 23 PH0-OSC_IN(PH0) (io) "PH0-OSC_IN(PH0)/EVENTOUT/OSC_IN", 24 PH1-OSC_OUT(PH1) (io) "PH1-OSC_OUT(PH1)/EVENTOUT/OSC_OUT", 25 NRST (io), 49 PF11 (io) "PF11/DCMI_D12,EVENTOUT,SPI5_MOSI", 50 PF12 (io) "PF12/FSMC_A6,EVENTOUT", 53 PF13 (io) "PF13/FSMC_A7,EVENTOUT", 54 PF14 (io) "PF14/FSMC_A8,EVENTOUT", 55 PF15 (io) "PF15/FSMC_A9,EVENTOUT", 56 PG0 (io) "PG0/FSMC_A10,EVENTOUT", 57 PG1 (io) "PG1/FSMC_A11,EVENTOUT", 58 PE7 (io) "PE7/FSMC_D4,TIM1_ETR,EVENTOUT,UART7_RX", 59 PE8 (io) "PE8/FSMC_D5,TIM1_CH1N,EVENTOUT,UART7_TX", 60 PE9 (io) "PE9/FSMC_D6,TIM1_CH1,EVENTOUT", 63 PE10 (io) "PE10/FSMC_D7,TIM1_CH2N,EVENTOUT", 64 PE11 (io) "PE11/FSMC_D8,TIM1_CH2,EVENTOUT,SPI4_NSS", 65 PE12 (io) "PE12/FSMC_D9,TIM1_CH3N,EVENTOUT,SPI4_SCK", 66 PE13 (io) "PE13/FSMC_D10,TIM1_CH3,EVENTOUT,SPI4_MISO", 67 PE14 (io) "PE14/FSMC_D11,TIM1_CH4,EVENTOUT,SPI4_MOSI", 68 PE15 (io) "PE15/FSMC_D12,TIM1_BKIN,EVENTOUT", 71 VCAP_1 (power), 87 PG2 (io) "PG2/FSMC_A12,EVENTOUT", 88 PG3 (io) "PG3/FSMC_A13,EVENTOUT", 89 PG4 (io) "PG4/FSMC_A14,EVENTOUT", 90 PG5 (io) "PG5/FSMC_A15,EVENTOUT", 91 PG6 (io) "PG6/FSMC_INT2,EVENTOUT,DCMI_D12", 92 PG7 (io) "PG7/FSMC_INT3,USART6_CK,EVENTOUT,DCMI_D13", 93 PG8 (io) "PG8/USART6_RTS,ETH_PPS_OUT,EVENTOUT,SPI6_NSS", 106 VCAP_2 (power), 124 PG9 (io) "PG9/USART6_RX,FSMC_NE2,FSMC_NCE3,EVENTOUT", 125 PG10 (io) "PG10/FSMC_NCE4_1,FSMC_NE3,EVENTOUT,DCMI_D2", 126 PG11 (io) "PG11/FSMC_NCE4_2,ETH_MII_TX_EN,ETH_RMII_TX_EN,EVENTOUT,DCMI_D3", 127 PG12 (io) "PG12/FSMC_NE4,USART6_RTS,EVENTOUT,SPI6_MISO", 128 PG13 (io) "PG13/FSMC_A24,USART6_CTS,ETH_MII_TXD0,ETH_RMII_TXD0,EVENTOUT,SPI6_SCK", 129 PG14 (io) "PG14/FSMC_A25,USART6_TX,ETH_MII_TXD1,ETH_RMII_TXD1,EVENTOUT,SPI6_MOSI", 132 PG15 (io) "PG15/USART6_CTS,DCMI_D13,EVENTOUT", 138 BOOT0 (in) "BOOT0/VPP", 141 PE0 (io) "PE0/TIM4_ETR,FSMC_NBL0,DCMI_D2,EVENTOUT,UART8_RX", 142 PE1 (io) "PE1/FSMC_NBL1,DCMI_D3,EVENTOUT,UART8_TX", 143 PDR_ON (in)
part C pins: 6 VBAT (power), 16 VSS (power), 17 VDD (power), 30 VDD (power), 31 VSSA (power), 32 VREF+ (power), 33 VDDA (power), 38 VSS (power), 39 VDD (power), 51 VSS (power), 52 VDD (power), 61 VSS (power), 62 VDD (power), 72 VDD (power), 83 VSS (power), 84 VDD (power), 94 VSS (power), 95 VDD (power), 107 VSS (power), 108 VDD (power), 120 VSS (power), 121 VDD (power), 130 VSS (power), 131 VDD (power), 144 VDD (power)

## STM32F439BGT6
designator U?
ARM Cortex-M4 32-bit MCU+FPU, 225 DMIPS, 1024 kB Flash, 256 kB Internal RAM, 168 I/Os, 208-pin LQFP, -40 to 85 degC, Tray; Manufacturer: STMicroelectronics; PartNumber: STM32F439BGT6; D/A Converter: 2x12-bit; FLASH Size (Prog) (kB): 1024; I/Os (High Current): 168; Internal RAM Size (kB): 256; Operating Frequency(F) (Processor speed) (MHz): 180; Supply Voltage(Vcc) max (V): 3.6; Supply Voltage(Vcc) min (V): 1.8; DatasheetVersion: Rev. 2; PackageVersion: Rev. 2, 05/2013; PackageReference: LQFP208; PackageDescription: 208-Pin Low Profile Quad Flat Package, 28 x 28 mm Body, 0.5 mm Pitch; Supplier 1: Mouser; Supplier Part Number 1: N/A; Core: ARM Cortex-M4; Packing: Tray; Mounting Technology: Surface Mount; ComponentLink1Description: Manufacturer URL; ComponentLink1URL: http://www.st.com/web/en/home.html; ComponentLink2Description: Datasheet; ComponentLink2URL: http://www.st.com/st-web-ui/static/active/en/resource/technical/document/data_brief/DM00055510.pdf; ComponentLink3Description: Package Specification; ComponentLink3URL: http://www.st.com/st-web-ui/static/active/en/resource/technical/document/data_brief/DM00053488.pdf
footprint STM-LQFP208_N (QFP, 208-Leads, Body 28x28mm, Pitch 0.5mm, IPC Medium Density)
footprint STM-LQFP208_L (QFP, 208-Leads, Body 28x28mm, Pitch 0.5mm, IPC High Density)
footprint STM-LQFP208_M (QFP, 208-Leads, Body 28x28mm, Pitch 0.5mm, IPC Low Density)
part A pins: 1 PE2 (io) "PE2/TRACECLK,SPI4_SCK,SAI1_MCLK_A,ETH_MII_TXD3,FMC_A23,EVENTOUT", 2 PE3 (io) "PE3/TRACED0,SAI1_SD_B,FMC_A19,EVENTOUT", 3 PE4 (io) "PE4/TRACED1,SPI4_NSS,SAI1_FS_A,FMC_A20,DCMI_D4,LCD_B0,EVENTOUT", 4 PE5 (io) "PE5/TRACED2,TIM9_CH1,SPI4_MISO,SAI1_SCK_A,FMC_A21,DCMI_D6,LCD_G0,EVENTOUT", 5 PE6 (io) "PE6/TRACED3,TIM9_CH2,SPI4_MOSI,SAI1_SD_A,FMC_A22,DCMI_D7,LCD_G1,EVENTOUT", 8 PC13 (io) "PC13/EVENTOUT/TAMP_1", 9 PC14-OSC32_IN(PC14) (io) "PC14-OSC32_IN(PC14)/EVENTOUT/OSC32_IN", 10 PC15-OSC32_OUT(PC15) (io) "PC15-OSC32_OUT(PC15)/EVENTOUT/OSC32_OUT", 16 PF0 (io) "PF0/I2C2_SDA,FMC_A0,EVENTOUT", 17 PF1 (io) "PF1/I2C2_SCL,FMC_A1,EVENTOUT", 18 PF2 (io) "PF2/I2C2_SMBA,FMC_A2,EVENTOUT", 22 PF3 (io) "PF3/FMC_A3,EVENTOUT/ADC3_IN9", 23 PF4 (io) "PF4/FMC_A4,EVENTOUT/ADC3_IN14", 24 PF5 (io) "PF5/FMC_A5,EVENTOUT/ADC3_IN15", 27 PF6 (io) "PF6/TIM10_CH1,SPI5_NSS,SAI1_SD_B,UART7_RX,FMC_NIORD,EVENTOUT/ADC3_IN4", 28 PF7 (io) "PF7/TIM11_CH1,SPI5_SCK,SAI1_MCLK_B,UART7_TX,FMC_NREG,EVENTOUT/ADC3_IN5", 29 PF8 (io) "PF8/SPI5_MISO,SAI1_SCK_B,TIM13_CH1,FMC_NIOWR,EVENTOUT/ADC3_IN6", 30 PF9 (io) "PF9/SPI5_MOSI,SAI1_FS_B,TIM14_CH1,FMC_CD,EVENTOUT/ADC3_IN7", 31 PF10 (io) "PF10/FMC_INTR,DCMI_D11,LCD_DE,EVENTOUT/ADC3_IN8", 35 PC0 (io) "PC0/OTG_HS_ULPI_STP,FMC_SDNWE,EVENTOUT/ADC123_IN10", 36 PC1 (io) "PC1/ETH_MDC,EVENTOUT/ADC123_IN11", 37 PC2 (io) "PC2/SPI2_MISO,I2S2ext_SD,OTG_HS_ULPI_DIR,ETH_MII_TXD2,FMC_SDNE0,EVENTOUT/ADC123_IN12", 38 PC3 (io) "PC3/SPI2_MOSI/I2S2_SD,OTG_HS_ULPI_NXT,ETH_MII_TX_CLK,FMC_SDCKE0,EVENTOUT/ADC123_IN13", 43 PA0-WKUP(PA0) (io) "PA0-WKUP(PA0)/TIM2_CH1/TIM2_ETR,TIM5_CH1,TIM8_ETR,USART2_CTS,UART4_TX,ETH_MII_CRS,EVENTOUT/ADC123_IN0/WKUP", 44 PA1 (io) "PA1/TIM2_CH2,TIM5_CH2,USART2_RTS,UART4_RX,ETH_MII_RX_CLK/ETH_RMII_REF_CLK,EVENTOUT/ADC123_IN1", 45 PA2 (io) "PA2/TIM2_CH3,TIM5_CH3,TIM9_CH1,USART2_TX,ETH_MDIO,EVENTOUT/ADC123_IN2", 50 PA3 (io) "PA3/TIM2_CH4,TIM5_CH4,TIM9_CH2,USART2_RX,OTG_HS_ULPI_D0,ETH_MII_COL,LCD_B5,EVENTOUT/ADC123_IN3", 53 PA4 (io) "PA4/SPI1_NSS,SPI3_NSS/I2S3_WS,USART2_CK,OTG_HS_SOF,DCMI_HSYNC,LCD_VSYNC,EVENTOUT/ADC12_IN4/DAC_OUT1", 54 PA5 (io) "PA5/TIM2_CH1/TIM2_ETR,TIM8_CH1N,SPI1_SCK,OTG_HS_ULPI_CK,EVENTOUT/ADC12_IN5/DAC_OUT2", 55 PA6 (io) "PA6/TIM1_BKIN,TIM3_CH1,TIM8_BKIN,SPI1_MISO,TIM13_CH1,DCMI_PIXCLK,LCD_G2,EVENTOUT/ADC12_IN6", 56 PA7 (io) "PA7/TIM1_CH1N,TIM3_CH2,TIM8_CH1N,SPI1_MOSI,TIM14_CH1,ETH_MII_RX_DV/ETH_RMII_CRS_DV,EVENTOUT/ADC12_IN7", 57 PC4 (io) "PC4/ETH_MII_RXD0/ETH_RMII_RXD0,EVENTOUT/ADC12_IN14", 58 PC5 (io) "PC5/ETH_MII_RXD1/ETH_RMII_RXD1,EVENTOUT/ADC12_IN15", 61 PB0 (io) "PB0/TIM1_CH2N,TIM3_CH3,TIM8_CH2N,LCD_R3,OTG_HS_ULPI_D1,ETH_MII_RXD2,EVENTOUT/ADC12_IN8", 62 PB1 (io) "PB1/TIM1_CH3N,TIM3_CH4,TIM8_CH3N,LCD_R6,OTG_HS_ULPI_D2,ETH_MII_RXD3,EVENTOUT/ADC12_IN9", 63 PB2-BOOT1(PB2) (io) "PB2-BOOT1(PB2)/EVENTOUT", 70 PF11 (io) "PF11/SPI5_MOSI,FMC_SDNRAS,DCMI_D12,EVENTOUT", 71 PF12 (io) "PF12/FMC_A6,EVENTOUT", 74 PF13 (io) "PF13/FMC_A7,EVENTOUT", 75 PF14 (io) "PF14/FMC_A8,EVENTOUT", 76 PF15 (io) "PF15/FMC_A9,EVENTOUT", 79 PE7 (io) "PE7/TIM1_ETR,UART7_RX,FMC_D4,EVENTOUT", 80 PE8 (io) "PE8/TIM1_CH1N,UART7_TX,FMC_D5,EVENTOUT", 81 PE9 (io) "PE9/TIM1_CH1,FMC_D6,EVENTOUT", 84 PE10 (io) "PE10/TIM1_CH2N,FMC_D7,EVENTOUT", 85 PE11 (io) "PE11/TIM1_CH2,SPI4_NSS,FMC_D8,LCD_G3,EVENTOUT", 86 PE12 (io) "PE12/TIM1_CH3N,SPI4_SCK,FMC_D9,LCD_B4,EVENTOUT", 87 PE13 (io) "PE13/TIM1_CH3,SPI4_MISO,FMC_D10,LCD_DE,EVENTOUT", 88 PE14 (io) "PE14/TIM1_CH4,SPI4_MOSI,FMC_D11,LCD_CLK,EVENTOUT", 89 PE15 (io) "PE15/TIM1_BKIN,FMC_D12,LCD_R7,EVENTOUT", 90 PB10 (io) "PB10/TIM2_CH3,I2C2_SCL,SPI2_SCK/I2S2_CK,USART3_TX,OTG_HS_ULPI_D3,ETH_MII_RX_ER,LCD_G4,EVENTOUT", 91 PB11 (io) "PB11/TIM2_CH4,I2C2_SDA,USART3_RX,OTG_HS_ULPI_D4,ETH_MII_TX_EN/ETH_RMII_TX_EN,LCD_G5,EVENTOUT", 104 PB12 (io) "PB12/TIM1_BKIN,I2C2_SMBA,SPI2_NSS/I2S2_WS,USART3_CK,CAN2_RX,OTG_HS_ULPI_D5,ETH_MII_TXD0/ETH_RMII_TXD0,OTG_HS_ID,EVENTOUT", 105 PB13 (io) "PB13/TIM1_CH1N,SPI2_SCK/I2S2_CK,USART3_CTS,CAN2_TX,OTG_HS_ULPI_D6,ETH_MII_TXD1/ETH_RMII_TXD1,EVENTOUT/OTG_HS_VBUS", 106 PB14 (io) "PB14/TIM1_CH2N,TIM8_CH2N,SPI2_MISO,I2S2ext_SD,USART3_RTS,TIM12_CH1,EVENTOUT/OTG_HS_DM", 107 PB15 (io) "PB15/RTC_REFIN,TIM1_CH3N,TIM8_CH3N,SPI2_MOSI/I2S2_SD,TIM12_CH2,EVENTOUT/OTG_HS_DP", 108 PD8 (io) "PD8/USART3_TX,FMC_D13,EVENTOUT", 109 PD9 (io) "PD9/USART3_RX,FMC_D14,EVENTOUT", 110 PD10 (io) "PD10/USART3_CK,FMC_D15,LCD_B3,EVENTOUT", 111 PD11 (io) "PD11/USART3_CTS,FMC_A16,EVENTOUT", 112 PD12 (io) "PD12/TIM4_CH1,USART3_RTS,FMC_A17,EVENTOUT", 113 PD13 (io) "PD13/TIM4_CH2,FMC_A18,EVENTOUT", 116 PD14 (io) "PD14/TIM4_CH3,FMC_D0,EVENTOUT", 117 PD15 (io) "PD15/TIM4_CH4,FMC_D1,EVENTOUT", 138 PC6 (io) "PC6/TIM3_CH1,TIM8_CH1,I2S2_MCK,USART6_TX,SDIO_D6,DCMI_D0,LCD_HSYNC,EVENTOUT", 139 PC7 (io) "PC7/TIM3_CH2,TIM8_CH2,I2S3_MCK,USART6_RX,SDIO_D7,DCMI_D1,LCD_G6,EVENTOUT", 140 PC8 (io) "PC8/TIM3_CH3,TIM8_CH3,USART6_CK,SDIO_D0,DCMI_D2,EVENTOUT", 141 PC9 (io) "PC9/MCO2,TIM3_CH4,TIM8_CH4,I2C3_SDA,I2S_CKIN,SDIO_D1,DCMI_D3,EVENTOUT", 142 PA8 (io) "PA8/MCO1,TIM1_CH1,I2C3_SCL,USART1_CK,OTG_FS_SOF,LCD_R6,EVENTOUT", 143 PA9 (io) "PA9/TIM1_CH2,I2C3_SMBA,USART1_TX,DCMI_D0,EVENTOUT/OTG_FS_VBUS", 144 PA10 (io) "PA10/TIM1_CH3,USART1_RX,OTG_FS_ID,DCMI_D1,EVENTOUT", 145 PA11 (io) "PA11/TIM1_CH4,USART1_CTS,CAN1_RX,LCD_R4,EVENTOUT/OTG_FS_DM", 146 PA12 (io) "PA12/TIM1_ETR,USART1_RTS,CAN1_TX,LCD_R5,EVENTOUT/OTG_FS_DP", 147 PA13(JTMS-SWDIO) (io) "PA13(JTMS-SWDIO)/JTMS-SWDIO,EVENTOUT", 159 PA14(JTCK-SWCLK) (io) "PA14(JTCK-SWCLK)/JTCK-SWCLK/EVENTOUT", 160 PA15(JTDI) (io) "PA15(JTDI)/JTDI,TIM2_CH1/TIM2_ETR,SPI1_NSS,SPI3_NSS/I2S3_WS,EVENTOUT", 161 PC10 (io) "PC10/SPI3_SCK/I2S3_CK,USART3_TX,UART4_TX,SDIO_D2,DCMI_D8,LCD_R2,EVENTOUT", 162 PC11 (io) "PC11/I2S3ext_SD,SPI3_MISO,USART3_RX,UART4_RX,SDIO_D3,DCMI_D4,EVENTOUT", 163 PC12 (io) "PC12/SPI3_MOSI/I2S3_SD,USART3_CK,UART5_TX,SDIO_CK,DCMI_D9,EVENTOUT", 164 PD0 (io) "PD0/CAN1_RX,FMC_D2,EVENTOUT", 165 PD1 (io) "PD1/CAN1_TX,FMC_D3,EVENTOUT", 166 PD2 (io) "PD2/TIM3_ETR,UART5_RX,SDIO_CMD,DCMI_D11,EVENTOUT", 167 PD3 (io) "PD3/SPI2_SCK/I2S2_CK,USART2_CTS,FMC_CLK,DCMI_D5,LCD_G7,EVENTOUT", 168 PD4 (io) "PD4/USART2_RTS,FMC_NOE,EVENTOUT", 169 PD5 (io) "PD5/USART2_TX,FMC_NWE,EVENTOUT", 172 PD6 (io) "PD6/SPI3_MOSI/I2S3_SD,SAI1_SD_A,USART2_RX,FMC_NWAIT,DCMI_D10,LCD_B2,EVENTOUT", 173 PD7 (io) "PD7/USART2_CK,FMC_NE1/FMC_NCE2,EVENTOUT", 192 PB3(JTDO/TRACESWO) (io) "PB3(JTDO/TRACESWO)/JTDO/TRACESWO,TIM2_CH2,SPI1_SCK,SPI3_SCK/I2S3_CK,EVENTOUT", 193 PB4(NJTRST) (io) "PB4(NJTRST)/NJTRST,TIM3_CH1,SPI1_MISO,SPI3_MISO,I2S3ext_SD,EVENTOUT", 194 PB5 (io) "PB5/TIM3_CH2,I2C1_SMBA,SPI1_MOSI,SPI3_MOSI/I2S3_SD,CAN2_RX,OTG_HS_ULPI_D7,ETH_PPS_OUT,FMC_SDCKE1,DCMI_D10,EVENTOUT", 195 PB6 (io) "PB6/TIM4_CH1,I2C1_SCL,USART1_TX,CAN2_TX,FMC_SDNE1,DCMI_D5,EVENTOUT", 196 PB7 (io) "PB7/TIM4_CH2,I2C1_SDA,USART1_RX,FMC_NL,DCMI_VSYNC,EVENTOUT", 198 PB8 (io) "PB8/TIM4_CH3,TIM10_CH1,I2C1_SCL,CAN1_RX,ETH_MII_TXD3,SDIO_D4,DCMI_D6,LCD_B6,EVENTOUT", 199 PB9 (io) "PB9/TIM4_CH4,TIM11_CH1,I2C1_SDA,SPI2_NSS/I2S2_WS,CAN1_TX,SDIO_D5,DCMI_D7,LCD_B7,EVENTOUT", 200 PE0 (io) "PE0/TIM4_ETR,UART8_RX,FMC_NBL0,DCMI_D2,EVENTOUT", 201 PE1 (io) "PE1/UART8_TX,FMC_NBL1,DCMI_D3,EVENTOUT"
part B pins: 7 PI8 (io) "PI8/EVENTOUT/TAMP_2", 11 PI9 (io) "PI9/CAN1_RX,FMC_D30,LCD_VSYNC,EVENTOUT", 12 PI10 (io) "PI10/ETH_MII_RX_ER,FMC_D31,LCD_HSYNC,EVENTOUT", 13 PI11 (io) "PI11/OTG_HS_ULPI_DIR,EVENTOUT", 19 PI12 (io) "PI12/LCD_HSYNC,EVENTOUT", 20 PI13 (io) "PI13/LCD_VSYNC,EVENTOUT", 21 PI14 (io) "PI14/LCD_CLK,EVENTOUT", 32 PH0-OSC_IN(PH0) (io) "PH0-OSC_IN(PH0)/EVENTOUT/OSC_IN", 33 PH1-OSC_OUT(PH1) (io) "PH1-OSC_OUT(PH1)/EVENTOUT/OSC_OUT", 34 NRST (io), 46 PH2 (io) "PH2/ETH_MII_CRS,FMC_SDCKE0,LCD_R0,EVENTOUT", 47 PH3 (io) "PH3/ETH_MII_COL,FMC_SDNE0,LCD_R1,EVENTOUT", 48 PH4 (io) "PH4/I2C2_SCL,OTG_HS_ULPI_NXT,EVENTOUT", 49 PH5 (io) "PH5/I2C2_SDA,SPI5_NSS,FMC_SDNWE,EVENTOUT", 64 PI15 (io) "PI15/LCD_R0,EVENTOUT", 65 PJ0 (io) "PJ0/LCD_R1,EVENTOUT", 66 PJ1 (io) "PJ1/LCD_R2,EVENTOUT", 67 PJ2 (io) "PJ2/LCD_R3,EVENTOUT", 68 PJ3 (io) "PJ3/LCD_R4,EVENTOUT", 69 PJ4 (io) "PJ4/LCD_R5,EVENTOUT", 77 PG0 (io) "PG0/FMC_A10,EVENTOUT", 78 PG1 (io) "PG1/FMC_A11,EVENTOUT", 92 VCAP_1 (power), 95 PJ5 (io) "PJ5/LCD_R6,EVENTOUT", 96 PH6 (io) "PH6/I2C2_SMBA,SPI5_SCK,TIM12_CH1,ETH_MII_RXD2,FMC_SDNE1,DCMI_D8,EVENTOUT", 97 PH7 (io) "PH7/I2C3_SCL,SPI5_MISO,ETH_MII_RXD3,FMC_SDCKE1,DCMI_D9,EVENTOUT", 98 PH8 (io) "PH8/I2C3_SDA,FMC_D16,DCMI_HSYNC,LCD_R2,EVENTOUT", 99 PH9 (io) "PH9/I2C3_SMBA,TIM12_CH2,FMC_D17,DCMI_D0,LCD_R3,EVENTOUT", 100 PH10 (io) "PH10/TIM5_CH1,FMC_D18,DCMI_D1,LCD_R4,EVENTOUT", 101 PH11 (io) "PH11/TIM5_CH2,FMC_D19,DCMI_D2,LCD_R5,EVENTOUT", 102 PH12 (io) "PH12/TIM5_CH3,FMC_D20,DCMI_D3,LCD_R6,EVENTOUT", 118 PJ6 (io) "PJ6/LCD_R7,EVENTOUT", 119 PJ7 (io) "PJ7/LCD_G0,EVENTOUT", 120 PJ8 (io) "PJ8/LCD_G1,EVENTOUT", 121 PJ9 (io) "PJ9/LCD_G2,EVENTOUT", 122 PJ10 (io) "PJ10/LCD_G3,EVENTOUT", 123 PJ11 (io) "PJ11/LCD_G4,EVENTOUT", 126 PK0 (io) "PK0/LCD_G5,EVENTOUT", 127 PK1 (io) "PK1/LCD_G6,EVENTOUT", 128 PK2 (io) "PK2/LCD_G7,EVENTOUT", 129 PG2 (io) "PG2/FMC_A12,EVENTOUT", 130 PG3 (io) "PG3/FMC_A13,EVENTOUT", 131 PG4 (io) "PG4/FMC_A14/FMC_BA0,EVENTOUT", 132 PG5 (io) "PG5/FMC_A15/FMC_BA1,EVENTOUT", 133 PG6 (io) "PG6/FMC_INT2,DCMI_D12,LCD_R7,EVENTOUT", 134 PG7 (io) "PG7/USART6_CK,FMC_INT3,DCMI_D13,LCD_CLK,EVENTOUT", 135 PG8 (io) "PG8/SPI6_NSS,USART6_RTS,ETH_PPS_OUT,FMC_SDCLK,EVENTOUT", 148 VCAP_2 (power), 151 PH13 (io) "PH13/TIM8_CH1N,CAN1_TX,FMC_D21,LCD_G2,EVENTOUT", 152 PH14 (io) "PH14/TIM8_CH2N,FMC_D22,DCMI_D4,LCD_G3,EVENTOUT", 153 PH15 (io) "PH15/TIM8_CH3N,FMC_D23,DCMI_D11,LCD_G4,EVENTOUT", 154 PI0 (io) "PI0/TIM5_CH4,SPI2_NSS/I2S2_WS,FMC_D24,DCMI_D13,LCD_G5,EVENTOUT", 155 PI1 (io) "PI1/SPI2_SCK/I2S2_CK,FMC_D25,DCMI_D8,LCD_G6,EVENTOUT", 156 PI2 (io) "PI2/TIM8_CH4,SPI2_MISO,I2S2ext_SD,FMC_D26,DCMI_D9,LCD_G7,EVENTOUT", 157 PI3 (io) "PI3/TIM8_ETR,SPI2_MOSI/I2S2_SD,FMC_D27,DCMI_D10,EVENTOUT", 174 PJ12 (io) "PJ12/LCD_B0,EVENTOUT", 175 PJ13 (io) "PJ13/LCD_B1,EVENTOUT", 176 PJ14 (io) "PJ14/LCD_B2,EVENTOUT", 177 PJ15 (io) "PJ15/LCD_B3,EVENTOUT", 178 PG9 (io) "PG9/USART6_RX,FMC_NE2/FMC_NCE3,EVENTOUT", 179 PG10 (io) "PG10/LCD_G3,FMC_NCE4_1/FMC_NE3,DCMI_D2,LCD_B2,EVENTOUT", 180 PG11 (io) "PG11/ETH_MII_TX_EN/ETH_RMII_TX_EN,FMC_NCE4_2,DCMI_D3,LCD_B3,EVENTOUT", 181 PG12 (io) "PG12/SPI6_MISO,USART6_RTS,LCD_B4,FMC_NE4,LCD_B1,EVENTOUT", 182 PG13 (io) "PG13/SPI6_SCK,USART6_CTS,ETH_MII_TXD0/ETH_RMII_TXD0,FMC_A24,EVENTOUT", 183 PG14 (io) "PG14/SPI6_MOSI,USART6_TX,ETH_MII_TXD1/ETH_RMII_TXD1,FMC_A25,EVENTOUT", 186 PK3 (io) "PK3/LCD_B4,EVENTOUT", 187 PK4 (io) "PK4/LCD_B5,EVENTOUT", 188 PK5 (io) "PK5/LCD_B6,EVENTOUT", 189 PK6 (io) "PK6/LCD_B7,EVENTOUT", 190 PK7 (io) "PK7/LCD_DE,EVENTOUT", 191 PG15 (io) "PG15/USART6_CTS,FMC_SDNCAS,DCMI_D13,EVENTOUT", 197 BOOT0 (in) "BOOT0/VPP", 203 PDR_ON (in), 205 PI4 (io) "PI4/TIM8_BKIN,FMC_NBL2,DCMI_D5,LCD_B4,EVENTOUT", 206 PI5 (io) "PI5/TIM8_CH1,FMC_NBL3,DCMI_VSYNC,LCD_B5,EVENTOUT", 207 PI6 (io) "PI6/TIM8_CH2,FMC_D28,DCMI_D6,LCD_B6,EVENTOUT", 208 PI7 (io) "PI7/TIM8_CH3,FMC_D29,DCMI_D7,LCD_B7,EVENTOUT"
part C pins: 6 VBAT (power), 14 VSS (power), 15 VDD (power), 25 VSS (power), 26 VDD (power), 39 VDD (power), 40 VSSA (power), 41 VREF+ (power), 42 VDDA (power), 51 VSS (power), 52 VDD (power), 59 VDD (power), 60 VSS (power), 72 VSS (power), 73 VDD (power), 82 VSS (power), 83 VDD (power), 93 VSS (power), 94 VDD (power), 103 VDD (power), 114 VSS (power), 115 VDD (power), 124 VDD (power), 125 VSS (power), 136 VSS (power), 137 VDD (power), 149 VSS (power), 150 VDD (power), 158 VDD (power), 170 VSS (power), 171 VDD (power), 184 VSS (power), 185 VDD (power), 202 VSS (power), 204 VDD (power)

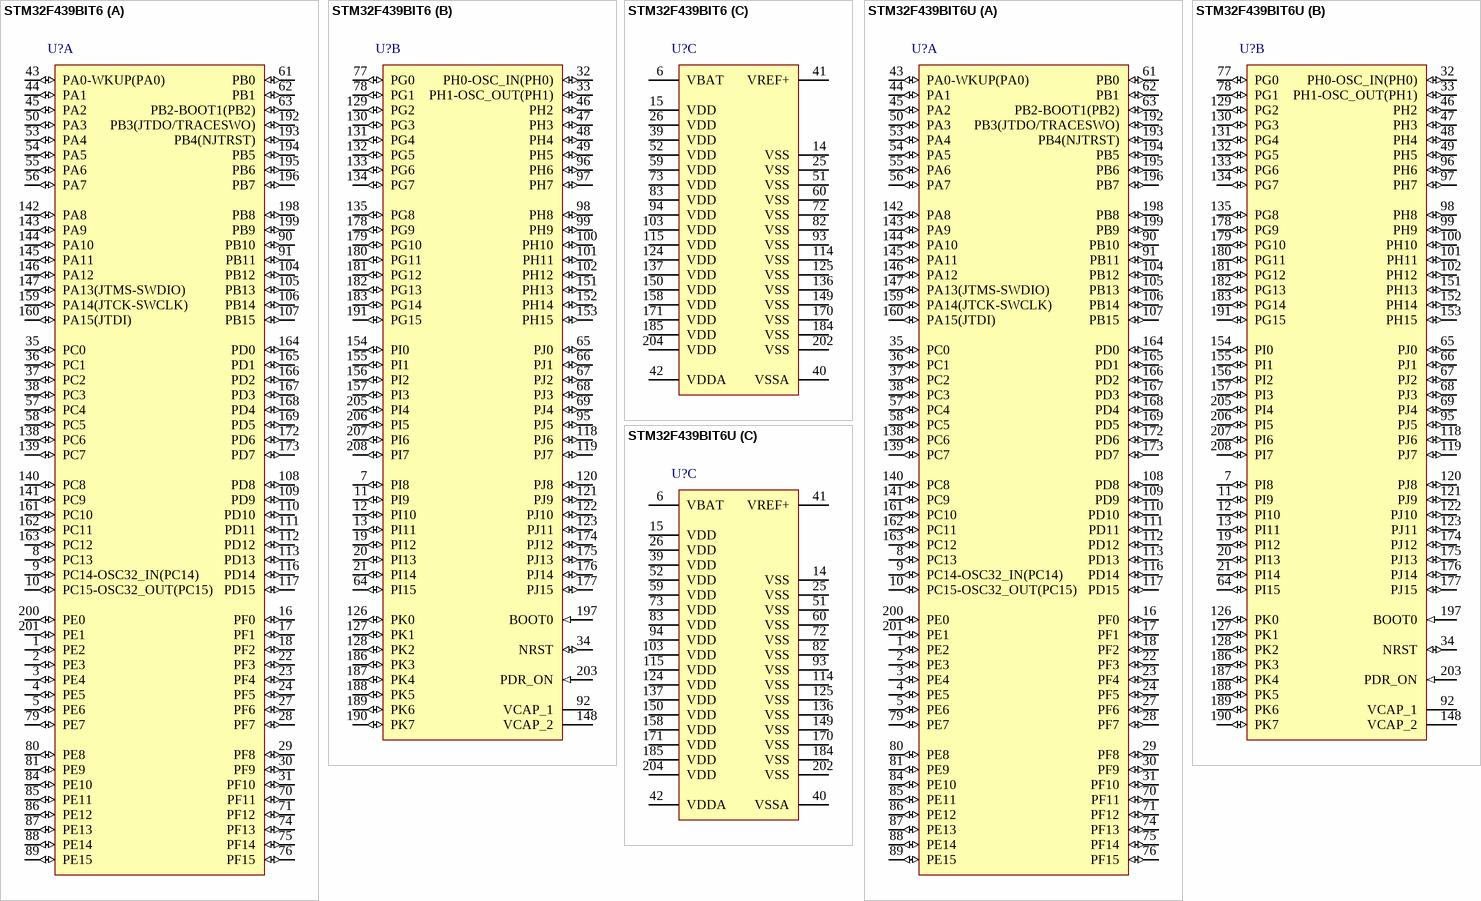
[diagram p32: symbols STM32F439BIT6 to STM32F439BIT6U]